# Altium schematic symbol library remote.SchLib: 24 symbols
Pins are listed as number, name and electrical type; pins without a type are passive.

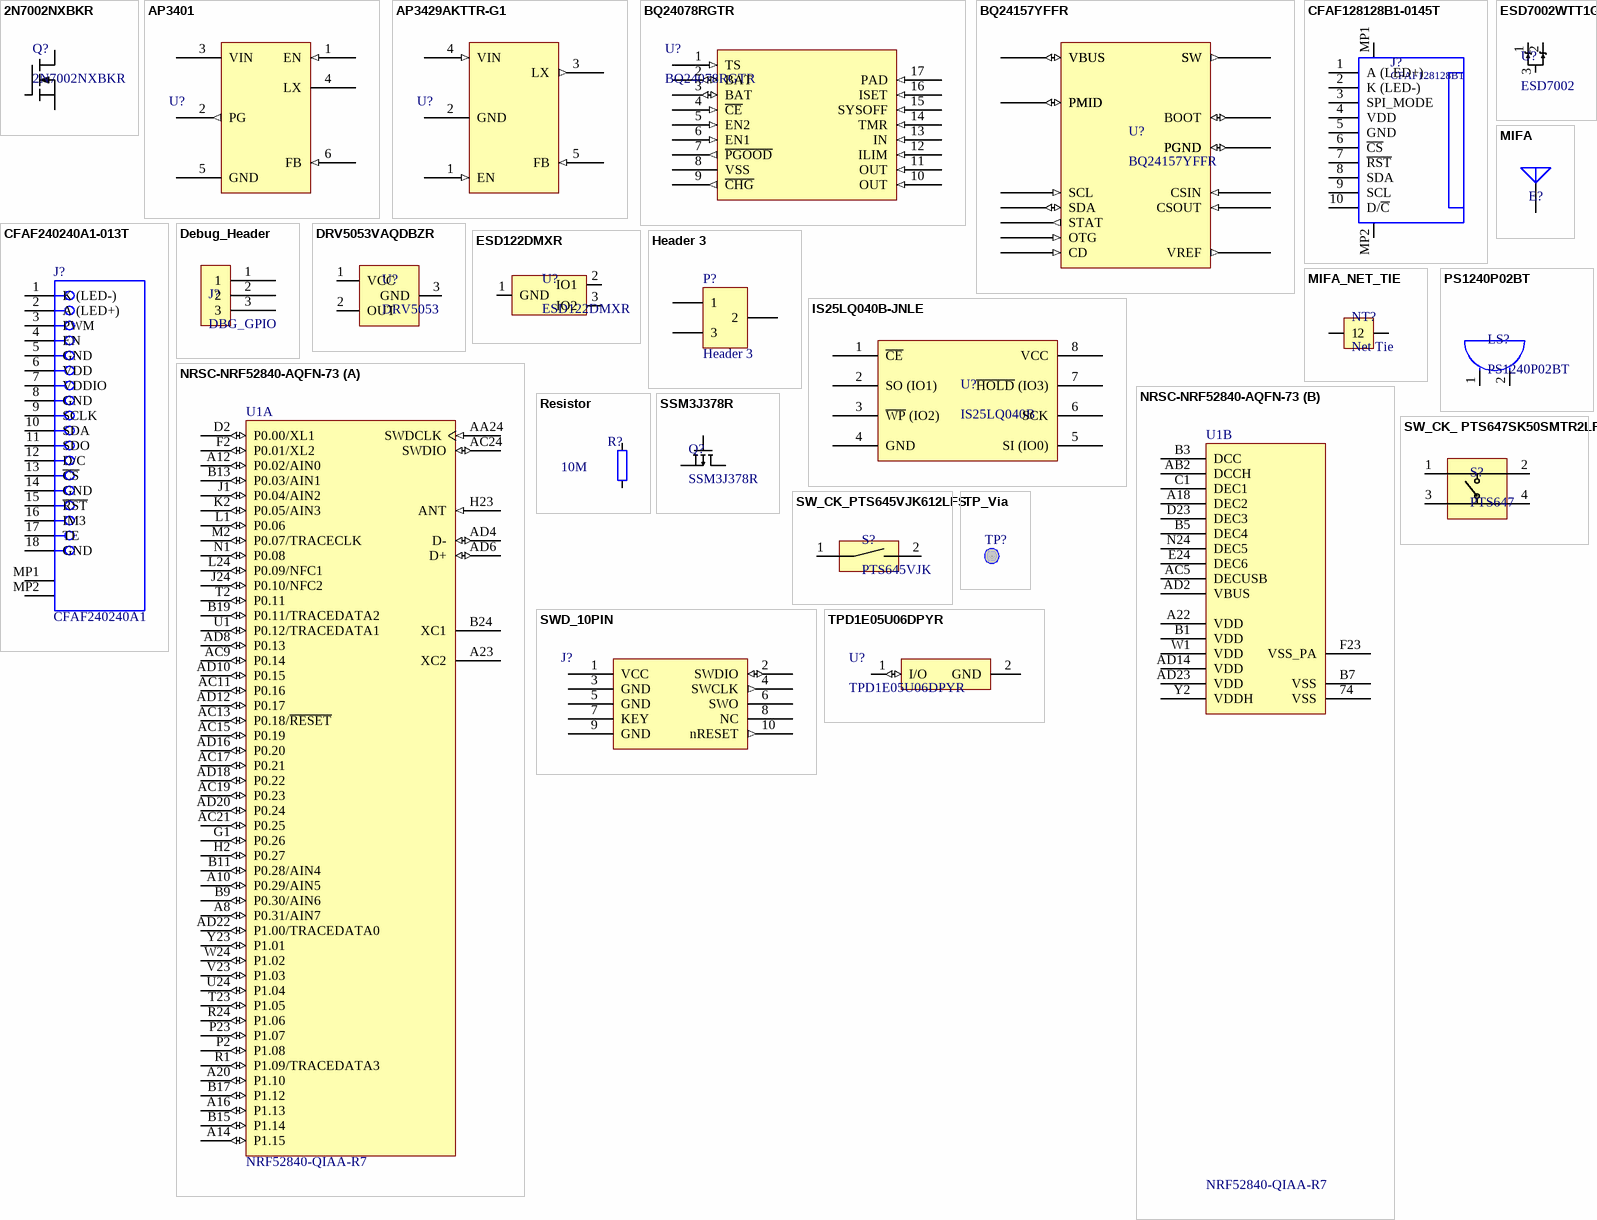
[diagram p0: symbols 2N7002NXBKR to TPD1E05U06DPYR]

## 2N7002NXBKR
designator Q?
N-Channel 60V 270mA (Ta), 330mA (Tc) 310mW (Ta), 1.67W (Tc) Surface Mount TO-236AB; ComponentLink1Description: Digikey; ComponentLink1URL: https://www.digikey.com/product-detail/en/nexperia-usa-inc/2N7002NXBKR/1727-8642-1-ND/10416559; ComponentLink2Description: Datasheet; ComponentLink2URL: https://assets.nexperia.com/documents/data-sheet/2N7002NXBK.pdf
footprint SOT190P230X110-3N (SOT223, 3-Leads, Body 2.90x2.30mm (avg), Pitch 1.90mm, IPC Medium Density)
pins: 1 G, 2 S, 3 D

## AP3401
designator U?
Buck Switching Regulator IC Positive Adjustable 1V 1 Output 1A 6-UDFN Exposed Pad; ComponentLink1Description: Digikey; ComponentLink1URL: https://www.digikey.com/product-detail/en/diodes-incorporated/AP3401DNTR-G1/AP3401DNTR-G1DICT-ND/6108944; ComponentLink2Description: Datasheet; ComponentLink2URL: https://www.diodes.com/assets/Datasheets/AP3401.pdf
footprint QFN65P201X201X60_HS-7N (QFN, 6-Leads, Body 2.01x2.01mm, Pitch 0.65mm, Thermal Pad 0.86x1.55mm, IPC Medium Density)
pins: 1 EN (in), 2 PG (out), 3 VIN (power), 4 LX (power), 5 GND (power), 6 FB (in)

## AP3429AKTTR-G1
designator U?
Buck Switching Regulator IC Positive Adjustable 0.6V 1 Output 2A SOT-23-5 Thin, TSOT-23-5; ComponentLink1Description: Digikey; ComponentLink1URL: https://www.digikey.com/product-detail/en/diodes-incorporated/AP3429AKTTR-G1/AP3429AKTTR-G1DICT-ND/5359842; ComponentLink2Description: Datasheet; ComponentLink2URL: https://www.diodes.com/assets/Datasheets/AP3429.pdf
footprint SOT95P280X100-5N (SOT23, 5-Leads, Body 2.90x2.80mm, Pitch 0.95mm, IPC Medium Density)
pins: 1 EN (in), 2 GND (power), 3 LX (out), 4 VIN (in), 5 FB (in)

## BQ24078RGTR
designator U?
Charger IC Lithium-Ion 16-VQFN (3x3); ComponentLink1Description: Digikey; ComponentLink1URL: https://www.digikey.com/product-detail/en/texas-instruments/BQ24078RGTR/296-49551-1-ND/9462550; ComponentLink2Description: Datasheet; ComponentLink2URL: http://www.ti.com/lit/ds/symlink/bq24076.pdf; ComponentLink3Description: MFG Page; ComponentLink3URL: www.ti.com/product/BQ24078/technicaldocument
footprint QFN50P300X300X100_HS-17N (QFN, 16-Leads, Body 3.00x3.00mm, Pitch 0.50mm, Thermal Pad 1.68x1.68mm, IPC Medium Density)
pins: 1 TS (in), 2 BAT (io), 3 BAT (io), 4 ~{CE} (in), 5 EN2 (in), 6 EN1 (in), 7 ~{PGOOD} (out), 8 VSS (power), 9 ~{CHG} (out), 10 OUT (in), 11 OUT (in), 12 ILIM (in), 13 IN (in), 14 TMR (in), 15 SYSOFF (in), 16 ISET (in), 17 PAD (in)

## BQ24157YFFR
designator U?
Charger IC Lithium Ion/Polymer 20-DSBGA (2.1x2); ComponentLink1Description: Digikey; ComponentLink1URL: https://www.digikey.com/product-detail/en/texas-instruments/BQ24157YFFR/296-39908-1-ND/5177785; ComponentLink2Description: Datasheet; ComponentLink2URL: http://www.ti.com/lit/ds/symlink/bq24157.pdf; ComponentLink3Description: MFG Page; ComponentLink3URL: https://www.ti.com/product/BQ24157
footprint BQ24157YFFR
pins: A1 VBUS (io), A2 VBUS (io), A3 BOOT (io), A4 SCL (in), B1 PMID (io), B2 PMID (io), B3 PMID (io), B4 SDA (io), C1 SW (out), C2 SW (out), C3 SW (out), C4 STAT (out), D1 PGND (io), D2 PGND (io), D3 PGND (io), D4 OTG (in), E1 CSIN (in), E2 CD (in), E3 VREF (out), E4 CSOUT (in)

## CFAF128128B1-0145T
designator J?, comment CFAF128128B1
10-pin 0.5mm pitch FPC for CFAF128128B1 TFT LCD; Part Number: 68711014022; Manufacturer: Wurth Elektronik; Withstanding Voltage: 250VAC; Working Voltage: 50VAC; Rated Current: 0.5A; Contact Resistance: 20mOhm; Pin Number: 10; Contact Design: TopContact; Operating Temperature: -25to85degC; Manufacturer URL: http://www.we-online.de; Pitch: 0.5mm; Publisher: WurthElektronik; Mounting Technology: SMT; Datasheet URL: https://katalog.we-online.de/em/datasheet/68711014022.pdf; Orientation: Horizontal; Package Reference: 68711014022; Packaging: TapeandReel; ComponentLink1Description: FPC Digikey; ComponentLink1URL: https://www.digikey.com/product-detail/en/5034801000/WM1389CT-ND/2356643; ComponentLink2Description: LCD MFG; ComponentLink2URL: https://www.crystalfontz.com/product/cfaf128128b10145t-128x128-graphic-tft-spi
footprint 68711014022 (10 Position FPC Connector Contacts, Top 0.020" (0.50mm) Surface Mount, Right Angle)
pins: 1 A (LED+), 2 K (LED-), 3 SPI_MODE, 4 VDD, 5 GND, 6 ~{CS}, 7 ~{RST}, 8 SDA, 9 SCL, 10 D/~{C}, MP1, MP2

## CFAF240240A1-013T
designator J?, comment CFAF240240A1
0.5mm pitch, 18pos FPC bottom connector for IPS, TFT LCD module.; PartNumber: 52746-1871; Manufacturer: Molex; Voltage (Max): 50V; Durability (mating cycles max): 20; PCB Locator: No; Circuits (Loaded): 18; Packing: Tape and Reel; Pitch - Mating Interface: 0.50mm; Polarized to PCB: Yes; Entry Angle: 90degrees Angle; Material - Metal: Phosphor Bronze; Material - Plating Termination: Gold; Mated Height: 2.00mm; Current (Max per Contact): 0.5A; ComponentLink3URL: http://www.molex.com/pdm_docs/sd/527461871_sd.pdf; ComponentLink2Description: FPC Datasheet; ComponentLink1URL: http://www.molex.com/molex/index.jsp; Mounting Technology: Surface Mount; RoHS: TRUE; ComponentLink2URL: http://www.molex.com/webdocs/datasheets/pdf/en-us/0527461871_FFC_FPC_CONNECTORS.pdf; Contact Position: Bottom; Orientation: Right Angle; PackageDescription: 18-Lead FPC Connector, Pitch 0.5 mm; ComponentLink3Description: FPC Package Specification; ComponentLink1Description: FPC Manufacturer URL; Stackable: No; PCB Retention: Yes; PackageReference: 52746-1871; Number of Rows: 1; PackageVersion: Rev. H, 05/2009; Material - Plating Mating: Gold; ComponentLink4Description: LCD Mfg; ComponentLink4URL: https://www.crystalfontz.com/product/cfaf240240a1013t-240x240-color-tft-lcd-display
footprint MOLX-52746-1871 (FPC Connector, 18-Leads, Right Angle, Pitch 0.5 mm, Mated Height 2.0 mm, SMT)
pins: 1 K (LED-), 2 A (LED+), 3 PWM, 4 EN, 5 GND, 6 VDD, 7 VDDIO, 8 GND, 9 SCLK, 10 SDA, 11 SDO, 12 D/C, 13 ~{CS}, 14 GND, 15 ~{RST}, 16 IM3, 17 TE, 18 GND, MP1, MP2

## Debug_Header
designator J?, comment DBG_GPIO
footprint DBG_Header
pins: 1, 2, 3

## DRV5053VAQDBZR
designator U?, comment DRV5053
Hall Effect Sensor Single Axis SOT-23-3; ComponentLink1Description: Digikey; ComponentLink1URL: https://www.digikey.com/product-detail/en/texas-instruments/DRV5053VAQDBZR/296-38460-1-ND/5022225; ComponentLink2Description: Datasheet; ComponentLink2URL: http://www.ti.com/lit/ds/symlink/drv5053.pdf
footprint SOT190P237X112-3N (SOT223, 3-Leads, Body 2.92x2.37mm (avg), Pitch 1.90mm, IPC Medium Density)
pins: 1 VCC, 2 OUT, 3 GND

## ESD122DMXR
designator U?
8.4V (Typ) Clamp 2.5A (8/20µs) Ipp Tvs Diode Surface Mount 3-X2SON (1x0.6); ComponentLink1Description: Digikey; ComponentLink1URL: https://www.digikey.com/product-detail/en/texas-instruments/ESD122DMXR/296-48543-1-ND/8567587; ComponentLink2Description: Datasheet; ComponentLink2URL: http://www.ti.com/lit/ds/symlink/esd122.pdf; ComponentLink3Description: MFG Page; ComponentLink3URL: http://www.ti.com/product/ESD122
footprint DFN30P100X40-3L (DFN, 3-Leads, Body 0.60x1.00mm, Pitch 0.30mm, IPC High Density)
pins: 1 GND, 2 IO1, 3 IO2

## ESD7002WTT1G
designator U?, comment ESD7002
Clamp  Ipp Tvs Diode Surface Mount SC-70-3 (SOT323); ComponentLink1Description: Digikey; ComponentLink1URL: https://www.digikey.com/product-detail/en/on-semiconductor/ESD7002WTT1G/ESD7002WTT1GOSCT-ND/5801809; ComponentLink2Description: Datasheet; ComponentLink2URL: https://www.onsemi.com/pub/Collateral/ESD7002-D.PDF
footprint SOT65P220X100-3N (SOT23, 3-Leads, Body 2.00x2.20mm, Pitch 0.65mm, IPC Medium Density)
pins: 1, 2, 3

## Header 3
designator P?
Header, 3-Pin; LatestRevisionDate: 17-Jul-2002; LatestRevisionNote: Re-released for DXP Platform.; Publisher: Altium Limited
footprint HDR1X3 (Connector; Header; 3 Position)
signal-integrity model Connector
pins: 1, 2, 3

## IS25LQ040B-JNLE
designator U?, comment IS25LQ040B
FLASH - NOR Memory IC 4Mb (512K x 8) SPI - Quad I/O 104MHz  8-SOIC; ComponentLink1Description: Digikey; ComponentLink1URL: https://www.digikey.com/product-detail/en/issi-integrated-silicon-solution-inc/IS25LQ040B-JNLE/706-1316-ND/5189751; ComponentLink2Description: Datasheet; ComponentLink2URL: http://www.issi.com/WW/pdf/25LQ025B-512B-010B-020B-040B.pdf
footprint SOIC127P600X175-8N (SOIC, 8-Leads, Body 4.90x3.90mm, Pitch 1.27mm, IPC Medium Density)
pins: 1 ~{CE}, 2 SO (IO1), 3 ~{WP} (IO2), 4 GND, 5 SI (IO0), 6 SCK, 7 ~{HOLD} (IO3), 8 VCC

## MIFA
designator E?, comment Cypress AN91445 MIFA  (value not drawn)
Meandered Inverted-F Antenna based on Cypress pap note 91445
footprint Cypress_AN91445_MIFA (Cypress app note 91445 MIFA reference implementation for BLE)
pins: 1

## MIFA_NET_TIE
designator NT?, comment Net Tie  (net tie, no BOM)
footprint MIFA_NET_TIE
pins: 1, 2

## NRSC-NRF52840-AQFN-73
designator U1, comment NRF52840-QIAA-R7
RF System on a Chip, 1.7 to 3.6 V, -40 to 85 degC, 73-Pin AQFN, RoHS, Tape and Reel; Manufacturer: Nordic Semiconductor; Package Description: 73-Pin Array Quad Flat No-lead Package, Body 7 x 7 mm, Pitch 0.5 mm; Datasheet Version: Rev. 0.5.1, 07/2017; RoHSCompliant: false; Mounting Technology: SurfaceMount; Manufacturer URL: http://www.nordicsemi.com/eng/Products/; Datasheet URL: http://infocenter.nordicsemi.com/pdf/nRF52840_OPS_v0.5.1.pdf; Package Reference: AQFN
footprint AQFN50P700X700X85_HS-74N
part A pins: A8 P0.31/AIN7 (io), A10 P0.29/AIN5 (io), A12 P0.02/AIN0 (io), A14 P1.15 (io) "General purpose I/O", A16 P1.13 (io) "General purpose I/O", A20 P1.10 (io) "General purpose I/O", A23 XC2 "Connection for 32 MHz crystal.", AA24 SWDCLK (in) "Serial wire debug clock input for debug and programming", AC9 P0.14 (io) "General purpose I/O", AC11 P0.16 (io) "General purpose I/O", AC13 P0.18/~{RESET} (io), AC15 P0.19 (io) "General purpose I/O", AC17 P0.21 (io) "General purpose I/O", AC19 P0.23 (io) "General purpose I/O", AC21 P0.25 (io) "General purpose I/O", AC24 SWDIO (io) "Debug serial data", AD4 D- (io) "USB D-", AD6 D+ (io) "USB D+", AD8 P0.13 (io) "General purpose I/O", AD10 P0.15 (io) "General purpose I/O", AD12 P0.17 (io) "General purpose I/O", AD16 P0.20 (io) "General purpose I/O", AD18 P0.22 (io) "General purpose I/O", AD20 P0.24 (io) "General purpose I/O", AD22 P1.00/TRACEDATA0 (io), B9 P0.30/AIN6 (io), B11 P0.28/AIN4 (io), B13 P0.03/AIN1 (io), B15 P1.14 (io) "General purpose I/O", B17 P1.12 (io) "General purpose I/O", B19 P0.11/TRACEDATA2 (io), B24 XC1 "Connection for 32 MHz crystal", D2 P0.00/XL1 (io), F2 P0.01/XL2 (io), G1 P0.26 (io) "General purpose I/O", H2 P0.27 (io) "General purpose I/O", H23 ANT (in) "Single-ended radio antenna connection", J1 P0.04/AIN2 (io), J24 P0.10/NFC2 (io), K2 P0.05/AIN3 (io), L1 P0.06 (io) "General purpose I/O", L24 P0.09/NFC1 (io), M2 P0.07/TRACECLK (io), N1 P0.08 (io) "General purpose I/O", P2 P1.08 (io) "General purpose I/O", P23 P1.07 (io) "General purpose I/O", R1 P1.09/TRACEDATA3 (io), R24 P1.06 (io) "General purpose I/O", T2 P0.11 (io) "General purpose I/O", T23 P1.05 (io) "General purpose I/O", U1 P0.12/TRACEDATA1 (io), U24 P1.04 (io) "General purpose I/O", V23 P1.03 (io) "General purpose I/O", W24 P1.02 (io) "General purpose I/O", Y23 P1.01 (io) "General purpose I/O"
part B pins: 74 VSS (power) "Ground pad. Exposed die pad must be connected to ground (VSS) for proper device operation.", A18 DEC2 (power) "1.3 V regulator supply decoupling (Radio supply)", A22 VDD (power) "Power supply", AB2 DCCH (power) "DC/DC converter output", AC5 DECUSB (power) "Decoupling for USB 3.3 V", AD2 VBUS (power) "5 V input for USB 3.3 V regulator", AD14 VDD (power) "Power supply", AD23 VDD (power) "Flash supply pad", B1 VDD (power) "Power supply", B3 DCC (power) "DC/DC converter output", B5 DEC4 (power) "1.3 V regulator supply decoupling", B7 VSS (power) "Ground", C1 DEC1 (power) "1.1 V regulator supply decoupling", D23 DEC3 (power) "Power supply, decoupling", E24 DEC6 (power) "1.3 V regulator supply decoupling (Radio supply)", F23 VSS_PA (power) "Ground (Radio supply)", N24 DEC5 (power) "1.3 V regulator supply decoupling (flash supply)", W1 VDD (power) "Power supply", Y2 VDDH (power) "High voltage power supply"

## PS1240P02BT
designator LS?
Buzzers Transducer, Externally Driven Piezo 3V  4kHz 60dB @ 3V, 10cm Through Hole PC Pins; ComponentLink1Description: Digikey; ComponentLink1URL: https://www.digikey.com/product-detail/en/tdk-corporation/PS1240P02BT/445-2525-1-ND/935930; ComponentLink2Description: Datasheet; ComponentLink2URL: https://product.tdk.com/info/en/catalog/datasheets/piezoelectronic_buzzer_ps_en.pdf
footprint Passive Buzzer
pins: 1, 2

## Resistor
designator R?  value 10M  (hidden comment: Resistor)
Published: 8-Jun-2000; LatestRevisionDate: 17-Jul-2002; LatestRevisionNote: Re-released for DXP Platform.; PackageReference: AXIAL-0.4; Publisher: Altium Limited; PackageDescription: Axial Device, Thru-Hole; 2 Leads; 0.4 in Pin Spacing
simulation model RESISTOR (Resistor)
signal-integrity model Res
pins: 1, 2

## SSM3J378R
designator Q?
P-Channel 20V 6A (Ta) 1W (Ta) Surface Mount SOT-23F; ComponentLink1Description: Digikey; ComponentLink1URL: https://www.digikey.com/product-detail/en/toshiba-semiconductor-and-storage/SSM3J378R-LF/SSM3J378RLFCT-ND/9866097; ComponentLink2Description: Datasheet; ComponentLink2URL: https://toshiba.semicon-storage.com/info/docget.jsp?did=59205&prodName=SSM3J378R
footprint Model Name (Footprint not found)
pins: 1 G, 2 S, 3 D

## SW_CK_ PTS647SK50SMTR2LFS
designator S?, comment PTS647
Tactile Switch SPST-NO Top Actuated Surface Mount; ComponentLink1Description: Digikey; ComponentLink1URL: https://www.digikey.com/product-detail/en/c-k/PTS-647-SK50-SMTR2-LFS/PTS647SK50SMTR2LFSCT-ND/9649868; ComponentLink2Description: Datasheet; ComponentLink2URL: https://dznh3ojzb2azq.cloudfront.net/products/Tactile/PTS647/documents/datasheet.pdf
footprint SW_CK_ PTS647SK50SMTR2LFS (Tactile Switch SPST-NO Top Actuated Surface Mount)
pins: 1, 2, 3, 4

## SW_CK_PTS645VJK612LFS
designator S?, comment PTS645VJK
Tactile Switch SPST-NO Side Actuated Through Hole, Right Angle; ComponentLink1Description: Digikey; ComponentLink1URL: https://www.digikey.com/product-detail/en/c-k/PTS645VJK612LFS/CKN10826-ND/7056048; ComponentLink2Description: Datasheet; ComponentLink2URL: https://dznh3ojzb2azq.cloudfront.net/products/Tactile/PTS645/documents/datasheet.pdf
footprint SW_CK_PTS645VJK612LFS (Tactile Switch SPST-NO Side Actuated Through Hole, Right Angle)
pins: 1, 2

## SWD_10PIN
designator J?  (value not drawn)
ComponentLink1Description: Digikey; ComponentLink1URL: https://www.digikey.com/product-detail/en/cnc-tech/3221-10-0300-00/1175-1735-ND/4878946
footprint SWD_10pin
pins: 1 VCC (power), 2 SWDIO (io), 3 GND (power), 4 SWCLK (out), 5 GND (power), 6 SWO, 7 KEY, 8 NC, 9 GND (power), 10 nRESET (out)

## TP_Via
designator TP?
Test point as a via
footprint TP_Via (Test Point Via)
pins: 1

## TPD1E05U06DPYR
designator U?
14V Clamp 2.5A (8/20µs) Ipp Tvs Diode Surface Mount 2-X1SON (1x.60); ComponentLink1Description: Digikey; ComponentLink1URL: https://www.digikey.com/product-detail/en/texas-instruments/TPD1E05U06DPYR/296-39341-1-ND/5143293; ComponentLink2Description: Datasheet; ComponentLink2URL: http://www.ti.com/lit/ds/symlink/tpd1e05u06.pdf
pins: 1 I/O (io), 2 GND (power)